# Altium footprint library Inductors.PcbLib: 10 footprints
Each footprint in its own frame and in the unit in brackets; x right, y up, seen from the top. Pads: shape width x height; smd on the part's side, far side on the other; paste and mask are expansions set on the pad; w line width, h text height; cw(c..) or ccw(c..) is an arc to the next point about the centre after c.
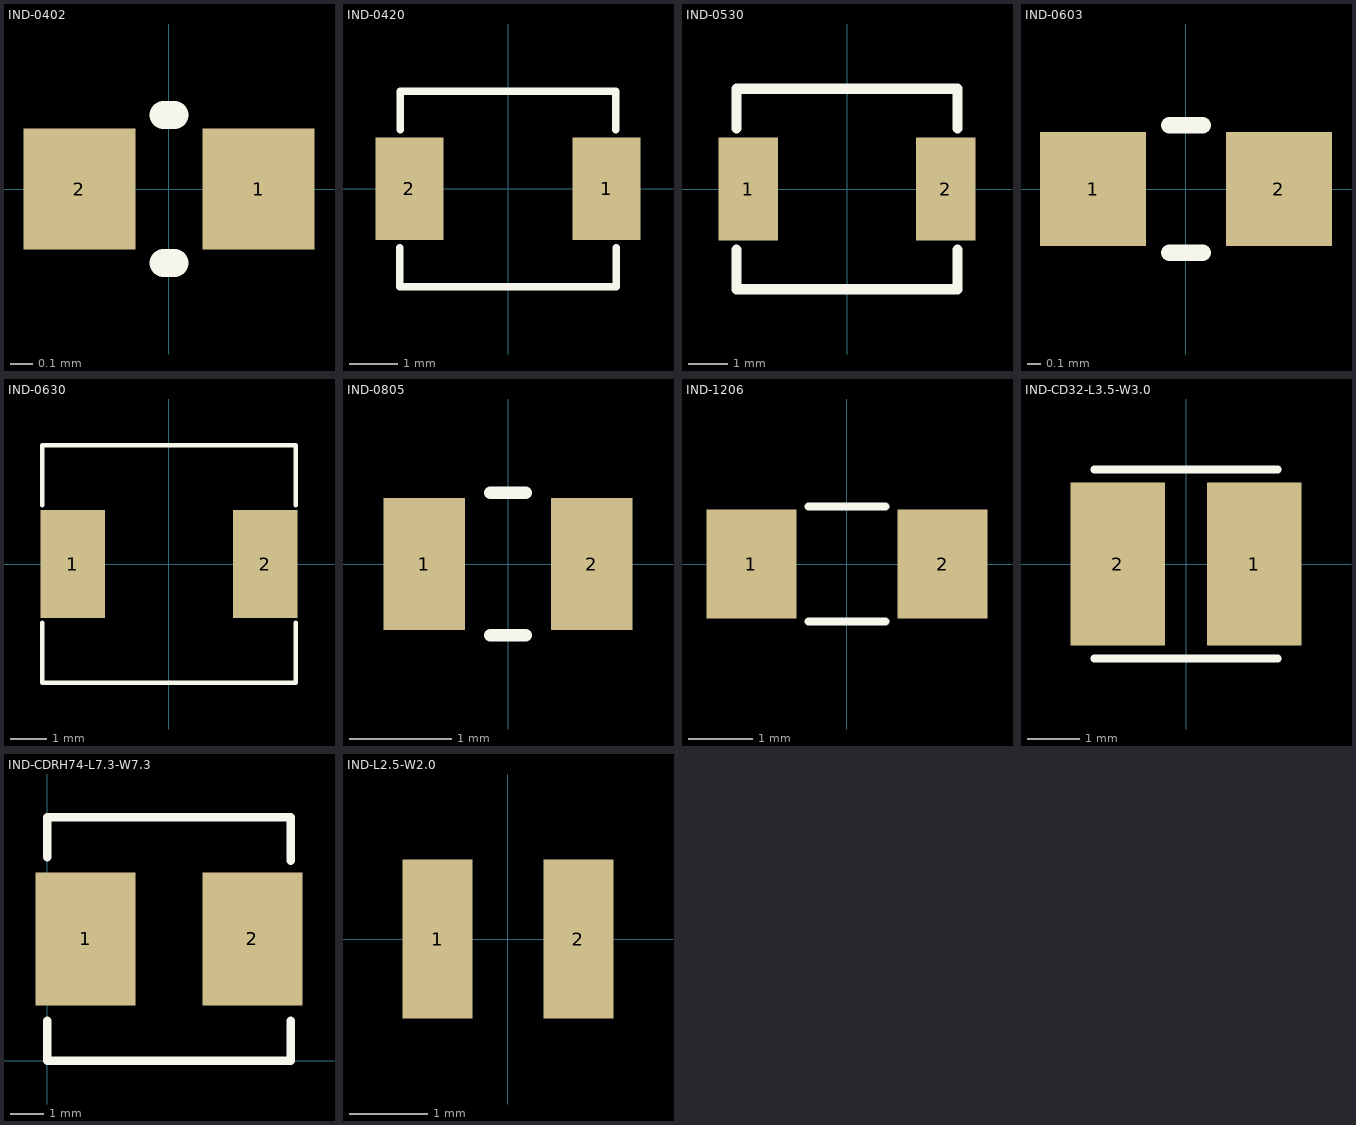
[diagram p0: the footprints below, top view; thin cyan lines are the x and y axes]

## IND-0402 [mm] "Inductors"
height 2.8
pads (2):
  rect 0.5x0.54 smd mask+0.051: 1(0.4,0) 2(-0.4,0)
Top Overlay:
  lines w0.125: -0.025,-0.33 0.025,-0.33 ; -0.025,0.33 0.025,0.33
3D body "L0402.STEP": height 0.36, standoff -0.01, extent -0.525,-0.262 0.525,0.263

## IND-0420 [mm] "SMD-L4.4-W4.2"
pads (2):
  rect 1.4x2.12 smd paste+0 mask+0.051: 1(2.028,0) 2(-2.028,0)
Top Overlay:
  lines w0.152: -2.228,-1.212 -2.228,-2.02 2.227,-2.02 2.227,-1.212 ; -2.219,1.212 -2.219,2.01 2.217,2.01 2.217,1.212
3D body "74437324012.stp": height 1.7, standoff -0.1, extent -2.225,-2.03 2.225,2.03

## IND-0530 [mm] "SMD-L5.5-W5.0"
pads (2):
  rect 1.5x2.6 smd mask+0.051: 1(-2.5,0) 2(2.5,0)
Top Overlay:
  lines w0.254: -2.794,-1.531 -2.794,-2.54 2.794,-2.54 2.794,-1.531 ; -2.794,1.531 -2.794,2.54 2.794,2.54 2.794,1.531
3D body "零件1.STEP": height 3.1, standoff 0.05, extent -2.75,-2.54 2.75,2.46

## IND-0603 [mm] "Inductors"
height 2.8
pads (2):
  rect 0.8x0.864 smd: 1(-0.7,0) 2(0.7,0)
Top Overlay:
  lines w0.125: -0.125,-0.48 0.125,-0.48 ; -0.125,0.48 0.125,0.48
3D body "L0603.STEP": height 0.46, standoff -0.01, extent -0.802,-0.412 0.802,0.412

## IND-0630 [mm] "SMD-L7.2-W6.6"
pads (2):
  rect 1.8x3 smd mask+0.051: 1(-2.675,0) 2(2.675,0)
Top Overlay:
  lines w0.127: -3.53,-1.64 -3.53,-3.3 0.26,-3.3 3.53,-3.3 3.53,-1.63 ; -3.53,1.63 -3.53,3.3 -0.26,3.3 3.53,3.3 3.53,1.64
3D body "SMD,7.2x6.6mm.step": height 2.81, standoff 0, extent -3.525,-3.3 3.525,3.3

## IND-0805 [mm] "Inductors"
height 2.8
pads (2):
  rect 0.8x1.3 smd: 1(-0.825,0) 2(0.825,0)
Top Overlay:
  lines w0.125: -0.175,-0.7 0.175,-0.7 ; -0.175,0.7 0.175,0.7
3D body "L0805.STEP": height 0.6, standoff -0.02, extent -1.025,-0.637 1.025,0.638

## IND-1206 [mm] "Inductors"
height 2.8
pads (2):
  rect 1.4x1.7 smd: 1(-1.49,0) 2(1.49,0)
Top Overlay:
  lines w0.125: -0.6,-0.9 0.6,-0.9 ; -0.6,0.9 0.6,0.9
Mechanical 13:
  lines w0.05: -1.6,-0.8 -1.6,0.8 ; 1.6,-0.8 1.6,0.8
3D body "C1206.STEP": height 1, standoff 0, extent -1.6,-0.8 1.6,0.8

## IND-CD32-L3.5-W3.0 [mm] "Inductors"
pads (2):
  rect 1.801x3.119 smd mask+0.051: 1(1.303,0) 2(-1.303,0)
Top Overlay:
  lines w0.15: -1.75,-1.801 1.75,-1.801 ; -1.75,1.801 1.75,1.801
3D body "User Library-CD32 inductor.step": height 2.1, standoff 0, extent -1.651,-1.49 1.651,1.51

## IND-CDRH74-L7.3-W7.3 [mm] "INDUCTOR"
pads (2):
  rect 3x4 smd: 1(1.15,3.65) 2(6.15,3.65)
Top Overlay:
  lines w0.254: 0,1.2 0,0 7.3,0 7.3,1.2 ; 0,6.1 0,7.3 7.3,7.3 7.3,6
3D body "User Library-CDRH74.step": height 4.2, standoff 0.03, extent -0.05,-0.1 7.35,7.3

## IND-L2.5-W2.0 [mil]
pads (2):
  rect 35x80 smd: 1(-35.42,0) 2(35.44,0)
3D body "SMD,2.5x2mm.step": height 39.37, standoff 0, extent -49.21,-39.37 49.21,39.37